# Altium footprint library symbols.PcbLib: 3 footprints
Each footprint in its own frame and in the unit in brackets; x right, y up, seen from the top. Pads: shape width x height; smd on the part's side, far side on the other; paste and mask are expansions set on the pad; w line width, h text height; cw(c..) or ccw(c..) is an arc to the next point about the centre after c.
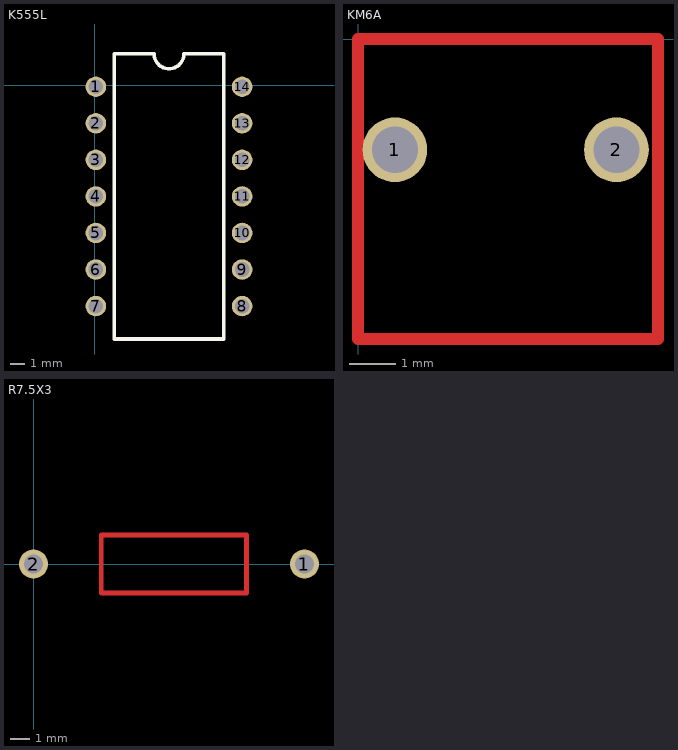
[diagram p0: the footprints below, top view; thin cyan lines are the x and y axes]

## K555L [mm]
pads (14):
  round 1.4 hole 1 unplated: 1(0.08,-0.12) 2(0.08,-2.62) 3(0.08,-5.12) 4(0.08,-7.62) 5(0.08,-10.12) 6(0.08,-12.62) 7(0.08,-15.12) 8(10.08,-15.12) 9(10.08,-12.62) 10(10.08,-10.12) 11(10.08,-7.62) 12(10.08,-5.12) 13(10.08,-2.62) 14(10.08,-0.12)
Top Overlay:
  lines w0.245: 1.33,-17.37 1.33,2.13 4.064,2.13 ccw(c5.08,2.13) 6.096,2.13 8.83,2.13 8.83,-17.37 1.33,-17.37

## KM6A [mm]
pads (2):
  round 1.4 hole 1 unplated: 1(0.8,-2.4) 2(5.6,-2.4)
Top Layer:
  lines w0.254: 0,-6.5 0,0 6.5,0 6.5,-6.5 0,-6.5

## R7.5X3 [mm]
pads (2):
  round 1.5 hole 1: 1(14,0) 2(0,0)
Top Layer:
  lines w0.254: 3.5,-1.5 3.5,1.5 11,1.5 11,-1.5 3.5,-1.5